# Altium footprint library CT-94.PcbLib: 1 footprints
Each footprint in its own frame and in the unit in brackets; x right, y up, seen from the top. Pads: shape width x height; smd on the part's side, far side on the other; paste and mask are expansions set on the pad; w line width, h text height; cw(c..) or ccw(c..) is an arc to the next point about the centre after c.
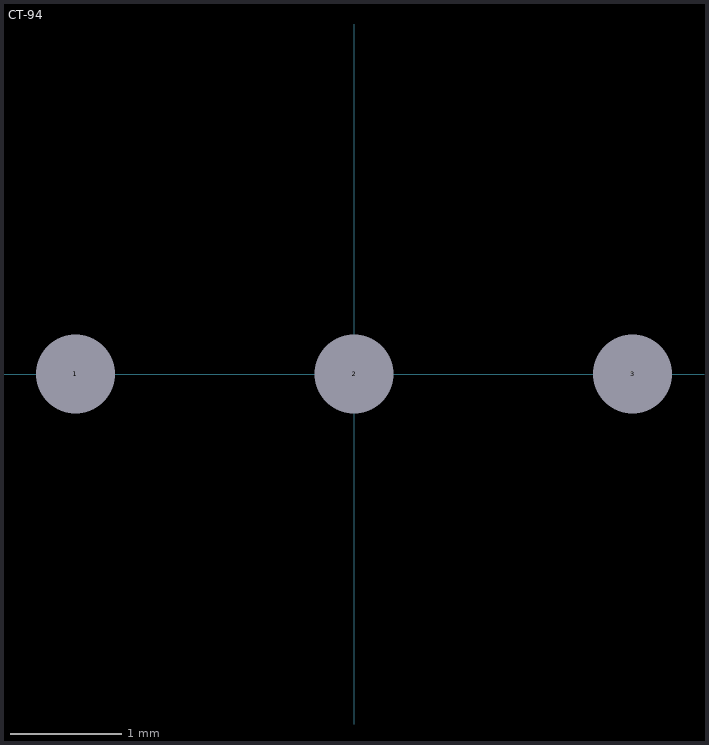
[diagram p0: the footprint, top view; thin cyan lines are the x and y axes]

## CT-94 [mm]
pads (3):
  round 0.08 hole 0.711: 1(-2.5,0) 2(0,0) 3(2.5,0)
3D body: height 11.55, standoff -6.4, extent -4.765,-2.431 4.765,2.4